# Altium integrated library TI Data Converters Analog to Digital Converter.IntLib: 2197 symbols (part 53 of 168)
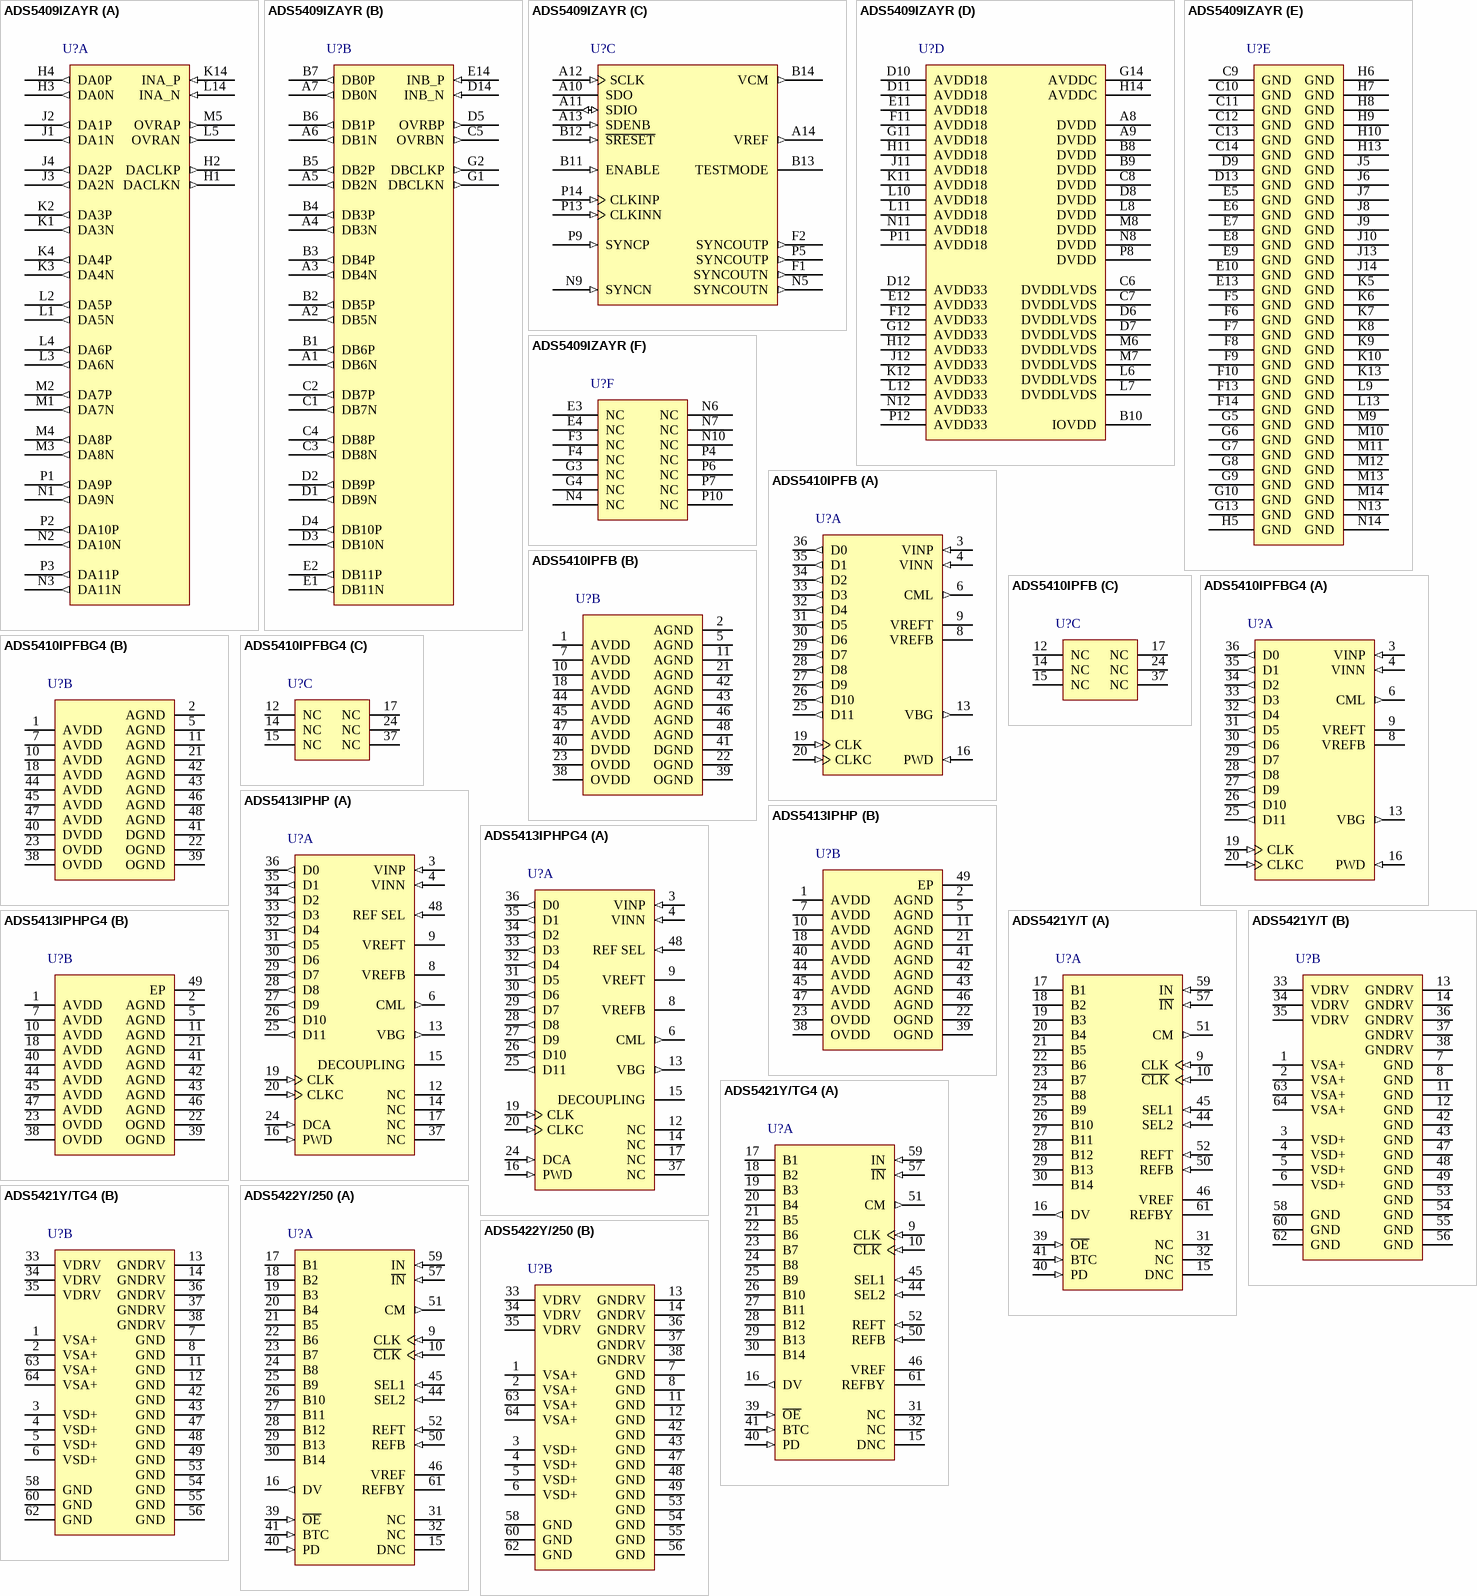
[diagram p178: symbols ADS5409IZAYR to ADS5422Y/250]

## ADS5413IPHP
designator U?
Low Power Analog to Digital Converter, -40 to 85 degC, 48-pin QFP (PHP48), Green (RoHS & no Sb/Br); Manufacturer: Texas Instruments; PartNumber: ADS5413IPHP; # Input Channels: 1; Analog Voltage AV/DD(Max)(V): 3.6; Analog Voltage AV/DD(Min)(V): 3; Architecture: Pipeline; Digital Supply(Max)(V): 3.3; Digital Supply(Min)(V): 1.6; ENOB(Bits): 11.3; INL(Max)(+/-LSB): 2; Interface: Parallel LVDS, Serial SPI Interface; Resolution(Bits): 12; Sample Rate (max)(SPS): 65M; SFDR(dB): 79; SINAD(dB): 67.8; SNR(dB): 68.5; SubFamily: High Speed ADC (>10MSPS); DatasheetVersion: SLWS153; PackageVersion: 4146927/B, 08/2003; PackageReference: PHP48-4410X4410TP; PackageDescription: 48-Pin PowerPAD(TM) Plastic Quad Flatpack, Body 7 x 7 mm, Pitch 0.5 mm; Eco-Plan: Green (RoHS & no Sb/Br); Mounting Technology: Surface Mount; Code_JEDEC: MS-026; ComponentLink1Description: Manufacturer URL; ComponentLink1URL: http://www.ti.com/; ComponentLink2Description: Datasheet; ComponentLink2URL: http://www.ti.com/general/docs/lit/getliterature.tsp?genericPartNumber=ADS5413&fileType=pdf; ComponentLink3Description: Package Specification; ComponentLink3URL: http://www.ti.com/litv/pdf/mpqf051a
footprint TI-PHP48-4410X4410TP_N (QFP, 48-Leads, Body 7x7mm, Pitch 0.5mm, Thermal Pad 4.6 x 4.6 mm, IPC Medium Density)
footprint TI-PHP48-4410X4410TP_L (QFP, 48-Leads, Body 7x7mm, Pitch 0.5mm, Thermal Pad 4.6 x 4.6 mm, IPC High Density)
footprint TI-PHP48-4410X4410TP_M (QFP, 48-Leads, Body 7x7mm, Pitch 0.5mm, Thermal Pad 4.6 x 4.6 mm, IPC Low Density)
part A pins: 3 VINP (in) "Analog input", 4 VINN (in) "Complementary analog input", 6 CML (out) "Common-mode output voltage", 8 VREFB "Reference bottom", 9 VREFT "Reference top", 12 NC "No connection", 13 VBG (out) "Bandgap voltage output", 14 NC "No connection", 15 DECOUPLING "Decoupling pin. Add 0.1 uF to GND", 16 PWD (in) "Power down. High = powered down, low = powered up, NC = powered up", 17 NC "No connection", 19 CLK (in) "Clock input", 20 CLKC (in) "Complementary clock input", 24 DCA (in) "Duty cycle adjust control. High = enable, low = disable, NC = enable", 25 D11 (out) "Digital outputs, D11 is most significant data bit", 26 D10 (out) "Digital outputs", 27 D9 (out) "Digital outputs", 28 D8 (out) "Digital outputs", 29 D7 (out) "Digital outputs", 30 D6 (out) "Digital outputs", 31 D5 (out) "Digital outputs", 32 D4 (out) "Digital outputs", 33 D3 (out) "Digital outputs", 34 D2 (out) "Digital outputs", 35 D1 (out) "Digital outputs", 36 D0 (out) "Digital outputs, D0 is least significant data bit.", 37 NC "No connection", 48 REF SEL (in) "Reference select. High = external reference, low = internal reference, NC = internal reference"
part B pins: 1 AVDD (power) "Analog power supply", 2 AGND (power) "Analog ground", 5 AGND (power) "Analog ground", 7 AVDD (power) "Analog power supply", 10 AVDD (power) "Analog power supply", 11 AGND (power) "Analog ground", 18 AVDD (power) "Analog power supply", 21 AGND (power) "Analog ground", 22 OGND (power) "Digital driver ground", 23 OVDD (power) "Digital driver power supply", 38 OVDD (power) "Digital driver power supply", 39 OGND (power) "Digital driver ground", 40 AVDD (power) "Analog power supply", 41 AGND (power) "Analog ground", 42 AGND (power) "Analog ground", 43 AGND (power) "Analog ground", 44 AVDD (power) "Analog power supply", 45 AVDD (power) "Analog power supply", 46 AGND (power) "Analog ground", 47 AVDD (power) "Analog power supply", 49 EP (power) "Connect to GND Plane"

## ADS5413IPHPG4
designator U?
Low Power Analog to Digital Converter, -40 to 85 degC, 48-pin QFP (PHP48), Green (RoHS & no Sb/Br); Manufacturer: Texas Instruments; PartNumber: ADS5413IPHPG4; # Input Channels: 1; Analog Voltage AV/DD(Max)(V): 3.6; Analog Voltage AV/DD(Min)(V): 3; Architecture: Pipeline; Digital Supply(Max)(V): 3.3; Digital Supply(Min)(V): 1.6; ENOB(Bits): 11.3; INL(Max)(+/-LSB): 2; Interface: Parallel LVDS, Serial SPI Interface; Resolution(Bits): 12; Sample Rate (max)(SPS): 65M; SFDR(dB): 79; SINAD(dB): 67.8; SNR(dB): 68.5; SubFamily: High Speed ADC (>10MSPS); DatasheetVersion: SLWS153; PackageVersion: 4146927/B, 08/2003; PackageReference: PHP48-4410X4410TP; PackageDescription: 48-Pin PowerPAD(TM) Plastic Quad Flatpack, Body 7 x 7 mm, Pitch 0.5 mm; Supplier 1: Digi-Key; Supplier Part Number 1: 296-10016-ND; Supplier 2: Farnell; Supplier Part Number 2: 1236503; Supplier 3: Mouser; Supplier Part Number 3: 595-THS1403QPHP; Eco-Plan: Green (RoHS & no Sb/Br); Mounting Technology: Surface Mount; Code_JEDEC: MS-026; ComponentLink1Description: Manufacturer URL; ComponentLink1URL: http://www.ti.com/; ComponentLink2Description: Datasheet; ComponentLink2URL: http://www.ti.com/general/docs/lit/getliterature.tsp?genericPartNumber=ADS5413&fileType=pdf; ComponentLink3Description: Package Specification; ComponentLink3URL: http://www.ti.com/litv/pdf/mpqf051a
footprint TI-PHP48-4410X4410TP_N (QFP, 48-Leads, Body 7x7mm, Pitch 0.5mm, Thermal Pad 4.6 x 4.6 mm, IPC Medium Density)
footprint TI-PHP48-4410X4410TP_L (QFP, 48-Leads, Body 7x7mm, Pitch 0.5mm, Thermal Pad 4.6 x 4.6 mm, IPC High Density)
footprint TI-PHP48-4410X4410TP_M (QFP, 48-Leads, Body 7x7mm, Pitch 0.5mm, Thermal Pad 4.6 x 4.6 mm, IPC Low Density)
part A pins: 3 VINP (in) "Analog input", 4 VINN (in) "Complementary analog input", 6 CML (out) "Common-mode output voltage", 8 VREFB "Reference bottom", 9 VREFT "Reference top", 12 NC "No connection", 13 VBG (out) "Bandgap voltage output", 14 NC "No connection", 15 DECOUPLING "Decoupling pin. Add 0.1 uF to GND", 16 PWD (in) "Power down. High = powered down, low = powered up, NC = powered up", 17 NC "No connection", 19 CLK (in) "Clock input", 20 CLKC (in) "Complementary clock input", 24 DCA (in) "Duty cycle adjust control. High = enable, low = disable, NC = enable", 25 D11 (out) "Digital outputs, D11 is most significant data bit", 26 D10 (out) "Digital outputs", 27 D9 (out) "Digital outputs", 28 D8 (out) "Digital outputs", 29 D7 (out) "Digital outputs", 30 D6 (out) "Digital outputs", 31 D5 (out) "Digital outputs", 32 D4 (out) "Digital outputs", 33 D3 (out) "Digital outputs", 34 D2 (out) "Digital outputs", 35 D1 (out) "Digital outputs", 36 D0 (out) "Digital outputs, D0 is least significant data bit.", 37 NC "No connection", 48 REF SEL (in) "Reference select. High = external reference, low = internal reference, NC = internal reference"
part B pins: 1 AVDD (power) "Analog power supply", 2 AGND (power) "Analog ground", 5 AGND (power) "Analog ground", 7 AVDD (power) "Analog power supply", 10 AVDD (power) "Analog power supply", 11 AGND (power) "Analog ground", 18 AVDD (power) "Analog power supply", 21 AGND (power) "Analog ground", 22 OGND (power) "Digital driver ground", 23 OVDD (power) "Digital driver power supply", 38 OVDD (power) "Digital driver power supply", 39 OGND (power) "Digital driver ground", 40 AVDD (power) "Analog power supply", 41 AGND (power) "Analog ground", 42 AGND (power) "Analog ground", 43 AGND (power) "Analog ground", 44 AVDD (power) "Analog power supply", 45 AVDD (power) "Analog power supply", 46 AGND (power) "Analog ground", 47 AVDD (power) "Analog power supply", 49 EP (power) "Connect to GND Plane"

## ADS5421Y/T
designator U?
14-Bit, 40 MSPS Sampling ADC, -40 to 85 degC, 64-pin QFP (PM64), Green (RoHS & no Sb/Br); Manufacturer: Texas Instruments; PartNumber: ADS5421Y/T; # Input Channels: 1; Analog Voltage AV/DD(Max)(V): 5.25; Analog Voltage AV/DD(Min)(V): 4.75; Architecture: Pipeline; Digital Supply(Max)(V): 5; Digital Supply(Min)(V): 3; ENOB(Bits): 12.2; Interface: Parallel LVDS, Serial SPI Interface; Resolution(Bits): 14; Sample Rate (max)(SPS): 40M; SFDR(dB): 88; SINAD(dB): 75; SNR(dB): 76; SubFamily: High Speed ADC (>10MSPS); DatasheetVersion: SBAS237E; PackageVersion: 4040152/C, 11/1996; PackageReference: PM64; PackageDescription: 64-Pin Plastic Quad Flatpack, Body 10 x 10 mm, Pitch 0.5 mm; Supplier 1: Digi-Key; Supplier Part Number 1: ADS1602IPFBR-ND; Supplier 2: Mouser; Supplier Part Number 2: 595-ADS1602IPFBR; Eco-Plan: Green (RoHS & no Sb/Br); Mounting Technology: Surface Mount; Code_JEDEC: MS-026; ComponentLink1Description: Manufacturer URL; ComponentLink1URL: http://www.ti.com/; ComponentLink2Description: Datasheet; ComponentLink2URL: http://www.ti.com/general/docs/lit/getliterature.tsp?genericPartNumber=ADS5421&fileType=pdf; ComponentLink3Description: Package Specification; ComponentLink3URL: http://www.ti.com/lit/ml/mtqf008a/mtqf008a.pdf
footprint TI-PM64_N (QFP, 64-Leads, Body 10x10mm, Pitch 0.5mm, IPC Medium Density)
footprint TI-PM64_L (QFP, 64-Leads, Body 10x10mm, Pitch 0.5mm, IPC High Density)
footprint TI-PM64_M (QFP, 64-Leads, Body 10x10mm, Pitch 0.5mm, IPC Low Density)
part A pins: 9 CLK (in) "Clock Input", 10 ~{CLK} (in) "Complementary Clock Input", 15 DNC "Do Not Connect", 16 DV (out) "Data Valid Pulse: HI = Data Valid", 17 B1 (hiz) "Data Bit 1 (D13) (MSB)", 18 B2 (hiz) "Data Bit 2 (D12)", 19 B3 (hiz) "Data Bit 3 (D11)", 20 B4 (hiz) "Data Bit 4 (D10)", 21 B5 (hiz) "Data Bit 5 (D9)", 22 B6 (hiz) "Data Bit 6 (D8)", 23 B7 (hiz) "Data Bit 7 (D7)", 24 B8 (hiz) "Data Bit 8 (D6)", 25 B9 (hiz) "Data Bit 9 (D5)", 26 B10 (hiz) "Data Bit 10 (D4)", 27 B11 (hiz) "Data Bit 11 (D3)", 28 B12 (hiz) "Data Bit 12 (D2)", 29 B13 (hiz) "Data Bit 13 (D1)", 30 B14 (hiz) "Data Bit 14 (D0) (LSB)", 31 NC "No Internal Connection", 32 NC "No Internal Connection", 39 ~{OE} (in) "Output Enable: HI = High Impedance", 40 PD (in) "Power Down: HI = Power Down; LO = Normal", 41 BTC (in) "HI = Binary Two‘s Complement", 44 SEL2 (in) "Reference Select 2: See Table on Page 5", 45 SEL1 (in) "Reference Select 1: See Table on Page 5", 46 VREF "Internal Reference Voltage", 50 REFB (in) "Bottom Reference Voltage Bypass", 51 CM (out) "Common-Mode Voltage (Midscale)", 52 REFT (in) "Top Reference Voltage Bypass", 57 ~{IN} (in) "Complementary Analog Input", 59 IN (in) "Analog Input", 61 REFBY "Reference Bypass"
part B pins: 1 VSA+ (power) "Analog Supply Voltage", 2 VSA+ (power) "Analog Supply Voltage", 3 VSD+ (power) "Digital Supply Voltage", 4 VSD+ (power) "Digital Supply Voltage", 5 VSD+ (power) "Digital Supply Voltage", 6 VSD+ (power) "Digital Supply Voltage", 7 GND (power) "Ground", 8 GND (power) "Ground", 11 GND (power) "Ground", 12 GND (power) "Ground", 13 GNDRV (power) "Ground", 14 GNDRV (power) "Ground", 33 VDRV (power) "Output Driver Supply Voltage", 34 VDRV (power) "Output Driver Supply Voltage", 35 VDRV (power) "Output Driver Supply Voltage", 36 GNDRV (power) "Ground", 37 GNDRV (power) "Ground", 38 GNDRV (power) "Ground", 42 GND (power) "Ground", 43 GND (power) "Ground", 47 GND (power) "Ground", 48 GND (power) "Ground", 49 GND (power) "Ground", 53 GND (power) "Ground", 54 GND (power) "Ground", 55 GND (power) "Ground", 56 GND (power) "Ground", 58 GND (power) "Ground", 60 GND (power) "Ground", 62 GND (power) "Ground", 63 VSA+ (power) "Analog Supply Voltage", 64 VSA+ (power) "Analog Supply Voltage"

## ADS5421Y/TG4
designator U?
14-Bit, 40 MSPS Sampling ADC, -40 to 85 degC, 64-pin QFP (PM64), Green (RoHS & no Sb/Br); Manufacturer: Texas Instruments; PartNumber: ADS5421Y/TG4; # Input Channels: 1; Analog Voltage AV/DD(Max)(V): 5.25; Analog Voltage AV/DD(Min)(V): 4.75; Architecture: Pipeline; Digital Supply(Max)(V): 5; Digital Supply(Min)(V): 3; ENOB(Bits): 12.2; Interface: Parallel LVDS, Serial SPI Interface; Resolution(Bits): 14; Sample Rate (max)(SPS): 40M; SFDR(dB): 88; SINAD(dB): 75; SNR(dB): 76; SubFamily: High Speed ADC (>10MSPS); DatasheetVersion: SBAS237E; PackageVersion: 4040152/C, 11/1996; PackageReference: PM64; PackageDescription: 64-Pin Plastic Quad Flatpack, Body 10 x 10 mm, Pitch 0.5 mm; Supplier 1: Digi-Key; Supplier Part Number 1: ADS1602IPFBRG4-ND; Supplier 2: Mouser; Supplier Part Number 2: 595-ADS1602IPFBRG4; Eco-Plan: Green (RoHS & no Sb/Br); Mounting Technology: Surface Mount; Code_JEDEC: MS-026; ComponentLink1Description: Manufacturer URL; ComponentLink1URL: http://www.ti.com/; ComponentLink2Description: Datasheet; ComponentLink2URL: http://www.ti.com/general/docs/lit/getliterature.tsp?genericPartNumber=ADS5421&fileType=pdf; ComponentLink3Description: Package Specification; ComponentLink3URL: http://www.ti.com/lit/ml/mtqf008a/mtqf008a.pdf
footprint TI-PM64_N (QFP, 64-Leads, Body 10x10mm, Pitch 0.5mm, IPC Medium Density)
footprint TI-PM64_L (QFP, 64-Leads, Body 10x10mm, Pitch 0.5mm, IPC High Density)
footprint TI-PM64_M (QFP, 64-Leads, Body 10x10mm, Pitch 0.5mm, IPC Low Density)
part A pins: 9 CLK (in) "Clock Input", 10 ~{CLK} (in) "Complementary Clock Input", 15 DNC "Do Not Connect", 16 DV (out) "Data Valid Pulse: HI = Data Valid", 17 B1 (hiz) "Data Bit 1 (D13) (MSB)", 18 B2 (hiz) "Data Bit 2 (D12)", 19 B3 (hiz) "Data Bit 3 (D11)", 20 B4 (hiz) "Data Bit 4 (D10)", 21 B5 (hiz) "Data Bit 5 (D9)", 22 B6 (hiz) "Data Bit 6 (D8)", 23 B7 (hiz) "Data Bit 7 (D7)", 24 B8 (hiz) "Data Bit 8 (D6)", 25 B9 (hiz) "Data Bit 9 (D5)", 26 B10 (hiz) "Data Bit 10 (D4)", 27 B11 (hiz) "Data Bit 11 (D3)", 28 B12 (hiz) "Data Bit 12 (D2)", 29 B13 (hiz) "Data Bit 13 (D1)", 30 B14 (hiz) "Data Bit 14 (D0) (LSB)", 31 NC "No Internal Connection", 32 NC "No Internal Connection", 39 ~{OE} (in) "Output Enable: HI = High Impedance", 40 PD (in) "Power Down: HI = Power Down; LO = Normal", 41 BTC (in) "HI = Binary Two‘s Complement", 44 SEL2 (in) "Reference Select 2: See Table on Page 5", 45 SEL1 (in) "Reference Select 1: See Table on Page 5", 46 VREF "Internal Reference Voltage", 50 REFB (in) "Bottom Reference Voltage Bypass", 51 CM (out) "Common-Mode Voltage (Midscale)", 52 REFT (in) "Top Reference Voltage Bypass", 57 ~{IN} (in) "Complementary Analog Input", 59 IN (in) "Analog Input", 61 REFBY "Reference Bypass"
part B pins: 1 VSA+ (power) "Analog Supply Voltage", 2 VSA+ (power) "Analog Supply Voltage", 3 VSD+ (power) "Digital Supply Voltage", 4 VSD+ (power) "Digital Supply Voltage", 5 VSD+ (power) "Digital Supply Voltage", 6 VSD+ (power) "Digital Supply Voltage", 7 GND (power) "Ground", 8 GND (power) "Ground", 11 GND (power) "Ground", 12 GND (power) "Ground", 13 GNDRV (power) "Ground", 14 GNDRV (power) "Ground", 33 VDRV (power) "Output Driver Supply Voltage", 34 VDRV (power) "Output Driver Supply Voltage", 35 VDRV (power) "Output Driver Supply Voltage", 36 GNDRV (power) "Ground", 37 GNDRV (power) "Ground", 38 GNDRV (power) "Ground", 42 GND (power) "Ground", 43 GND (power) "Ground", 47 GND (power) "Ground", 48 GND (power) "Ground", 49 GND (power) "Ground", 53 GND (power) "Ground", 54 GND (power) "Ground", 55 GND (power) "Ground", 56 GND (power) "Ground", 58 GND (power) "Ground", 60 GND (power) "Ground", 62 GND (power) "Ground", 63 VSA+ (power) "Analog Supply Voltage", 64 VSA+ (power) "Analog Supply Voltage"

## ADS5422Y/250
designator U?
14-Bit, 62 MSPS Sampling ADC, -40 to 85 degC, 64-pin QFP (PM64), Green (RoHS & no Sb/Br); Manufacturer: Texas Instruments; PartNumber: ADS5422Y/250; # Input Channels: 1; Analog Voltage AV/DD(Max)(V): 5.25; Analog Voltage AV/DD(Min)(V): 4.75; Architecture: Pipeline; Digital Supply(Max)(V): 5; Digital Supply(Min)(V): 3; ENOB(Bits): 11.7; Interface: Parallel LVDS, Serial SPI Interface; Resolution(Bits): 14; Sample Rate (max)(SPS): 62M; SFDR(dB): 85; SINAD(dB): 72; SNR(dB): 73; SubFamily: High Speed ADC (>10MSPS); DatasheetVersion: SBAS250D; PackageVersion: 4040152/C, 11/1996; PackageReference: PM64; PackageDescription: 64-Pin Plastic Quad Flatpack, Body 10 x 10 mm, Pitch 0.5 mm; Supplier 1: Digi-Key; Supplier Part Number 1: 296-17890-2-ND; Supplier 2: Digi-Key; Supplier Part Number 2: 296-17890-1-ND; Supplier 3: Digi-Key; Supplier Part Number 3: 296-17890-6-ND; Supplier 4: Farnell; Supplier Part Number 4: 9968903; Supplier 5: Newark; Supplier Part Number 5: 28K2732; Supplier 6: Mouser; Supplier Part Number 6: 595-ADS1602IPFBT; Eco-Plan: Green (RoHS & no Sb/Br); Mounting Technology: Surface Mount; Code_JEDEC: MS-026; ComponentLink1Description: Manufacturer URL; ComponentLink1URL: http://www.ti.com/; ComponentLink2Description: Datasheet; ComponentLink2URL: http://www.ti.com/general/docs/lit/getliterature.tsp?genericPartNumber=ADS5422&fileType=pdf; ComponentLink3Description: Package Specification; ComponentLink3URL: http://www.ti.com/lit/ml/mtqf008a/mtqf008a.pdf
footprint TI-PM64_N (QFP, 64-Leads, Body 10x10mm, Pitch 0.5mm, IPC Medium Density)
footprint TI-PM64_L (QFP, 64-Leads, Body 10x10mm, Pitch 0.5mm, IPC High Density)
footprint TI-PM64_M (QFP, 64-Leads, Body 10x10mm, Pitch 0.5mm, IPC Low Density)
part A pins: 9 CLK (in) "Clock Input", 10 ~{CLK} (in) "Complementary Clock Input", 15 DNC "Do Not Connect", 16 DV (out) "Data Valid Pulse: HI = Data Valid", 17 B1 (hiz) "Data Bit 1 (D13) (MSB)", 18 B2 (hiz) "Data Bit 2 (D12)", 19 B3 (hiz) "Data Bit 3 (D11)", 20 B4 (hiz) "Data Bit 4 (D10)", 21 B5 (hiz) "Data Bit 5 (D9)", 22 B6 (hiz) "Data Bit 6 (D8)", 23 B7 (hiz) "Data Bit 7 (D7)", 24 B8 (hiz) "Data Bit 8 (D6)", 25 B9 (hiz) "Data Bit 9 (D5)", 26 B10 (hiz) "Data Bit 10 (D4)", 27 B11 (hiz) "Data Bit 11 (D3)", 28 B12 (hiz) "Data Bit 12 (D2)", 29 B13 (hiz) "Data Bit 13 (D1)", 30 B14 (hiz) "Data Bit 14 (D0) (LSB)", 31 NC "No Internal Connection", 32 NC "No Internal Connection", 39 ~{OE} (in) "Output Enable: HI = High Impedance", 40 PD (in) "Power Down: HI = Power Down; LO = Normal", 41 BTC (in) "HI = Binary Two‘s Complement", 44 SEL2 (in) "Reference Select 2: See Table on Page 5", 45 SEL1 (in) "Reference Select 1: See Table on Page 5", 46 VREF "Internal Reference Voltage", 50 REFB (in) "Bottom Reference Voltage Bypass", 51 CM (out) "Common-Mode Voltage (Midscale)", 52 REFT (in) "Top Reference Voltage Bypass", 57 ~{IN} (in) "Complementary Analog Input", 59 IN (in) "Analog Input", 61 REFBY "Reference Bypass"
part B pins: 1 VSA+ (power) "Analog Supply Voltage", 2 VSA+ (power) "Analog Supply Voltage", 3 VSD+ (power) "Digital Supply Voltage", 4 VSD+ (power) "Digital Supply Voltage", 5 VSD+ (power) "Digital Supply Voltage", 6 VSD+ (power) "Digital Supply Voltage", 7 GND (power) "Ground", 8 GND (power) "Ground", 11 GND (power) "Ground", 12 GND (power) "Ground", 13 GNDRV (power) "Ground", 14 GNDRV (power) "Ground", 33 VDRV (power) "Output Driver Supply Voltage", 34 VDRV (power) "Output Driver Supply Voltage", 35 VDRV (power) "Output Driver Supply Voltage", 36 GNDRV (power) "Ground", 37 GNDRV (power) "Ground", 38 GNDRV (power) "Ground", 42 GND (power) "Ground", 43 GND (power) "Ground", 47 GND (power) "Ground", 48 GND (power) "Ground", 49 GND (power) "Ground", 53 GND (power) "Ground", 54 GND (power) "Ground", 55 GND (power) "Ground", 56 GND (power) "Ground", 58 GND (power) "Ground", 60 GND (power) "Ground", 62 GND (power) "Ground", 63 VSA+ (power) "Analog Supply Voltage", 64 VSA+ (power) "Analog Supply Voltage"

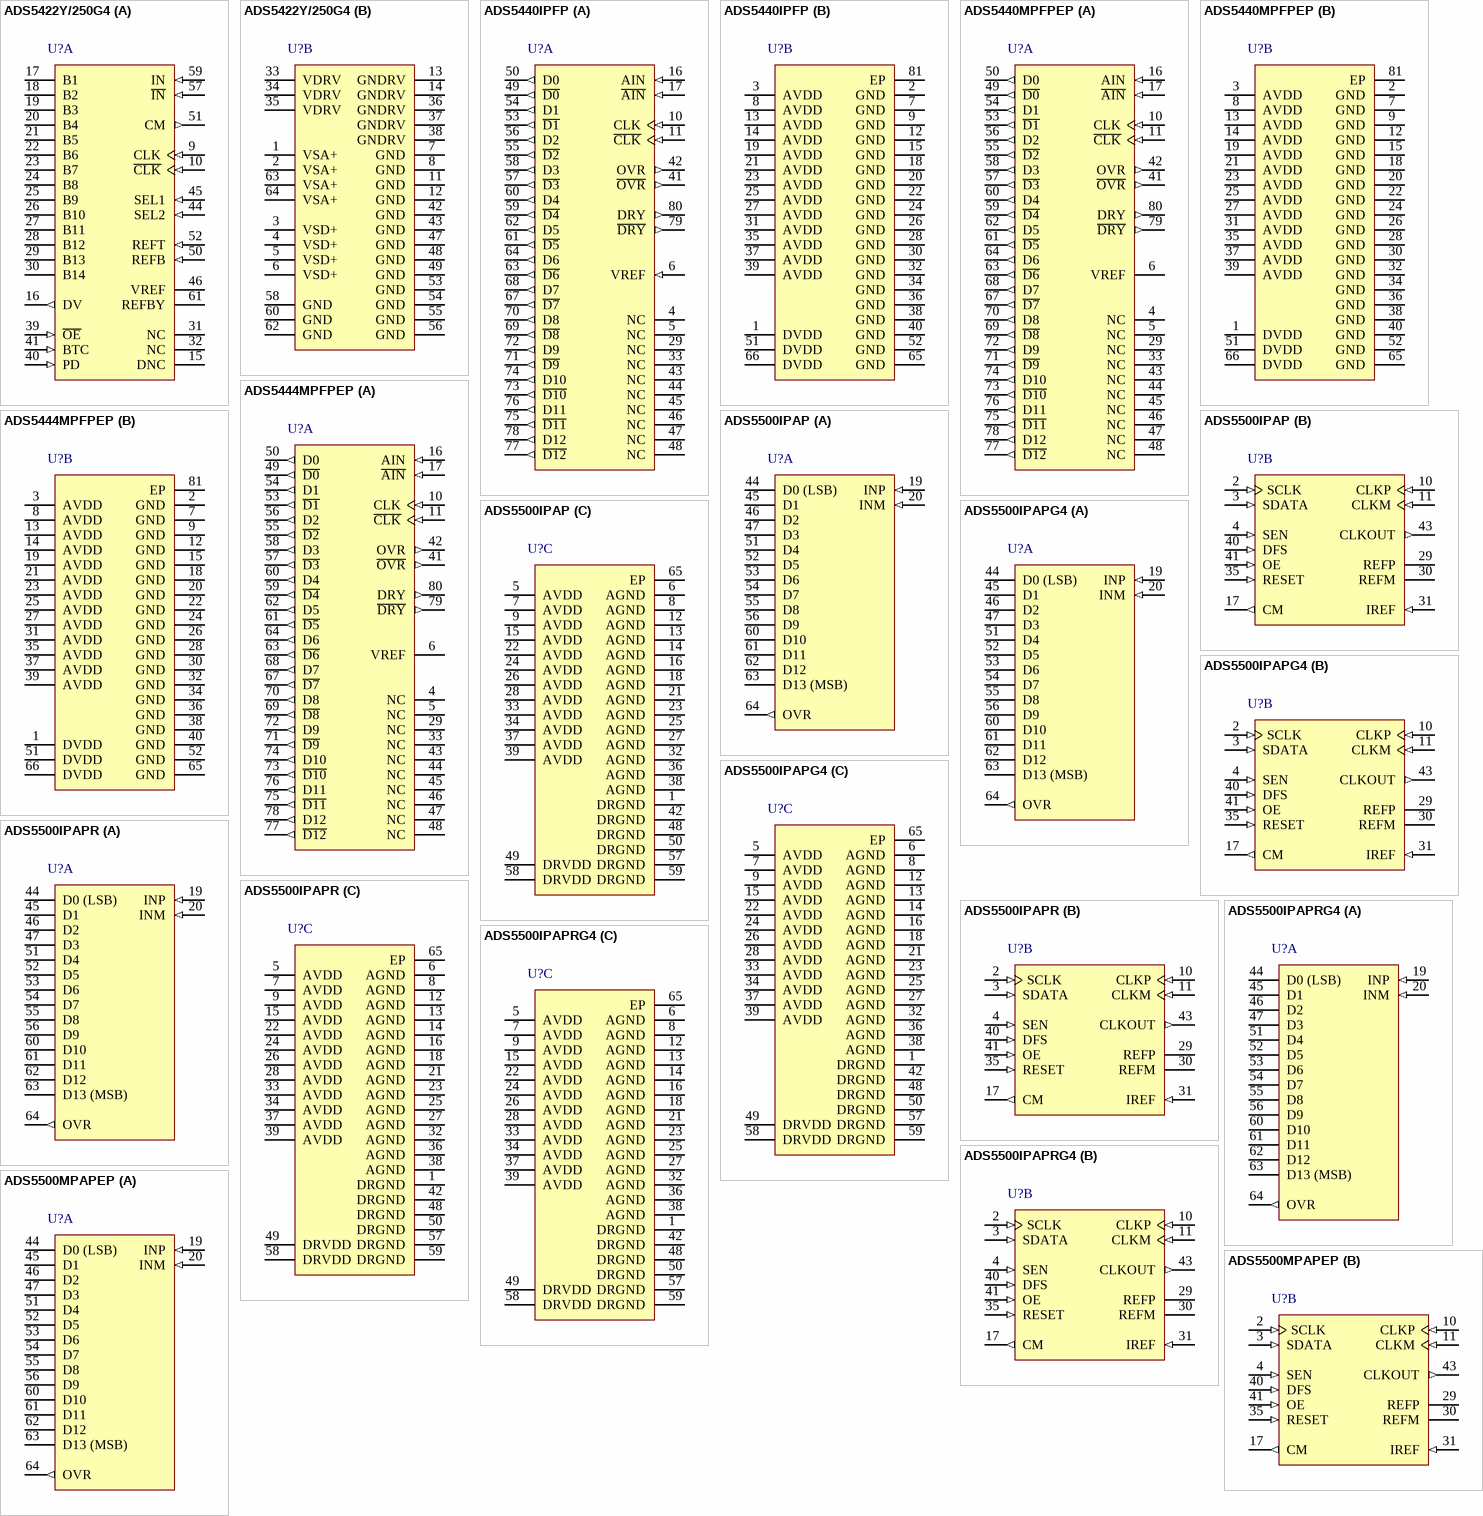
[diagram p51: symbols ADS5422Y/250G4 to ADS5500MPAPEP]

## ADS5422Y/250G4
designator U?
14-Bit, 62 MSPS Sampling ADC, -40 to 85 degC, 64-pin QFP (PM64), Green (RoHS & no Sb/Br); Manufacturer: Texas Instruments; PartNumber: ADS5422Y/250G4; # Input Channels: 1; Analog Voltage AV/DD(Max)(V): 5.25; Analog Voltage AV/DD(Min)(V): 4.75; Architecture: Pipeline; Digital Supply(Max)(V): 5; Digital Supply(Min)(V): 3; ENOB(Bits): 11.7; Interface: Parallel LVDS, Serial SPI Interface; Resolution(Bits): 14; Sample Rate (max)(SPS): 62M; SFDR(dB): 85; SINAD(dB): 72; SNR(dB): 73; SubFamily: High Speed ADC (>10MSPS); DatasheetVersion: SBAS250D; PackageVersion: 4040152/C, 11/1996; PackageReference: PM64; PackageDescription: 64-Pin Plastic Quad Flatpack, Body 10 x 10 mm, Pitch 0.5 mm; Supplier 1: Digi-Key; Supplier Part Number 1: ADS1602IPFBTG4-ND; Supplier 2: Mouser; Supplier Part Number 2: 595-ADS1602IPFBTG4; Eco-Plan: Green (RoHS & no Sb/Br); Mounting Technology: Surface Mount; Code_JEDEC: MS-026; ComponentLink1Description: Manufacturer URL; ComponentLink1URL: http://www.ti.com/; ComponentLink2Description: Datasheet; ComponentLink2URL: http://www.ti.com/general/docs/lit/getliterature.tsp?genericPartNumber=ADS5422&fileType=pdf; ComponentLink3Description: Package Specification; ComponentLink3URL: http://www.ti.com/lit/ml/mtqf008a/mtqf008a.pdf
footprint TI-PM64_N (QFP, 64-Leads, Body 10x10mm, Pitch 0.5mm, IPC Medium Density)
footprint TI-PM64_L (QFP, 64-Leads, Body 10x10mm, Pitch 0.5mm, IPC High Density)
footprint TI-PM64_M (QFP, 64-Leads, Body 10x10mm, Pitch 0.5mm, IPC Low Density)
part A pins: 9 CLK (in) "Clock Input", 10 ~{CLK} (in) "Complementary Clock Input", 15 DNC "Do Not Connect", 16 DV (out) "Data Valid Pulse: HI = Data Valid", 17 B1 (hiz) "Data Bit 1 (D13) (MSB)", 18 B2 (hiz) "Data Bit 2 (D12)", 19 B3 (hiz) "Data Bit 3 (D11)", 20 B4 (hiz) "Data Bit 4 (D10)", 21 B5 (hiz) "Data Bit 5 (D9)", 22 B6 (hiz) "Data Bit 6 (D8)", 23 B7 (hiz) "Data Bit 7 (D7)", 24 B8 (hiz) "Data Bit 8 (D6)", 25 B9 (hiz) "Data Bit 9 (D5)", 26 B10 (hiz) "Data Bit 10 (D4)", 27 B11 (hiz) "Data Bit 11 (D3)", 28 B12 (hiz) "Data Bit 12 (D2)", 29 B13 (hiz) "Data Bit 13 (D1)", 30 B14 (hiz) "Data Bit 14 (D0) (LSB)", 31 NC "No Internal Connection", 32 NC "No Internal Connection", 39 ~{OE} (in) "Output Enable: HI = High Impedance", 40 PD (in) "Power Down: HI = Power Down; LO = Normal", 41 BTC (in) "HI = Binary Two‘s Complement", 44 SEL2 (in) "Reference Select 2: See Table on Page 5", 45 SEL1 (in) "Reference Select 1: See Table on Page 5", 46 VREF "Internal Reference Voltage", 50 REFB (in) "Bottom Reference Voltage Bypass", 51 CM (out) "Common-Mode Voltage (Midscale)", 52 REFT (in) "Top Reference Voltage Bypass", 57 ~{IN} (in) "Complementary Analog Input", 59 IN (in) "Analog Input", 61 REFBY "Reference Bypass"
part B pins: 1 VSA+ (power) "Analog Supply Voltage", 2 VSA+ (power) "Analog Supply Voltage", 3 VSD+ (power) "Digital Supply Voltage", 4 VSD+ (power) "Digital Supply Voltage", 5 VSD+ (power) "Digital Supply Voltage", 6 VSD+ (power) "Digital Supply Voltage", 7 GND (power) "Ground", 8 GND (power) "Ground", 11 GND (power) "Ground", 12 GND (power) "Ground", 13 GNDRV (power) "Ground", 14 GNDRV (power) "Ground", 33 VDRV (power) "Output Driver Supply Voltage", 34 VDRV (power) "Output Driver Supply Voltage", 35 VDRV (power) "Output Driver Supply Voltage", 36 GNDRV (power) "Ground", 37 GNDRV (power) "Ground", 38 GNDRV (power) "Ground", 42 GND (power) "Ground", 43 GND (power) "Ground", 47 GND (power) "Ground", 48 GND (power) "Ground", 49 GND (power) "Ground", 53 GND (power) "Ground", 54 GND (power) "Ground", 55 GND (power) "Ground", 56 GND (power) "Ground", 58 GND (power) "Ground", 60 GND (power) "Ground", 62 GND (power) "Ground", 63 VSA+ (power) "Analog Supply Voltage", 64 VSA+ (power) "Analog Supply Voltage"

## ADS5440IPFP
designator U?
13-Bit, 210 MSPS Pipeline ADC, -40 to 85 degC, 80-pin QFP (PFP80), Green (RoHS & no Sb/Br); Manufacturer: Texas Instruments; PartNumber: ADS5440IPFP; # Input Channels: 1; Analog Voltage AV/DD(Max)(V): 5.25; Analog Voltage AV/DD(Min)(V): 4.75; Digital Supply(Max)(V): 3.6; Digital Supply(Min)(V): 3; ENOB(Bits): 11.4; INL(Max)(+/-LSB): 2.2; Interface: Parallel LVDS; Resolution(Bits): 13; Sample Rate (max)(SPS): 210M; SFDR(dB): 76; SINAD(dB): 68; SNR(dB): 69; SubFamily: High Speed ADC (>10MSPS); DatasheetVersion: SLAS467A; PackageVersion: 4146925/C, 07/2011; PackageReference: PFP80-6825X6825TP; PackageDescription: 80-Pin PowerPAD(TM) Plastic Quad Flatpack, Body 12 x 12 mm, Pitch 0.5 mm; Supplier 1: Digi-Key; Supplier Part Number 1: 296-25640-2-ND; Supplier 2: Digi-Key; Supplier Part Number 2: 296-25640-1-ND; Supplier 3: Digi-Key; Supplier Part Number 3: 296-25640-6-ND; Supplier 4: Mouser; Supplier Part Number 4: 595-ADS5204IPFBRG4Q1; Architecture: Pipeline; Eco-Plan: Green (RoHS & no Sb/Br); Mounting Technology: Surface Mount; Code_JEDEC: MS-026; ComponentLink1Description: Manufacturer URL; ComponentLink1URL: http://www.ti.com/; ComponentLink2Description: Datasheet; ComponentLink2URL: http://www.ti.com/general/docs/lit/getliterature.tsp?genericPartNumber=ADS5440&fileType=pdf; ComponentLink3Description: Package Specification; ComponentLink3URL: http://www.ti.com/litv/pdf/mpqf049b
footprint TI-PFP80-6825X6825TP_N (QFP, 80-Leads, Body 12x12mm, Pitch 0.5mm, Thermal Pad 7.5x7.5mm, IPC Medium Density)
footprint TI-PFP80-6825X6825TP_L (QFP, 80-Leads, Body 12x12mm, Pitch 0.5mm, Thermal Pad 7.5x7.5mm, IPC High Density)
footprint TI-PFP80-6825X6825TP_M (QFP, 80-Leads, Body 12x12mm, Pitch 0.5mm, Thermal Pad 7.5x7.5mm, IPC Low Density)
part A pins: 4 NC "No connect", 5 NC "No connect", 6 VREF (in) "Reference voltage", 10 CLK (in) "Differential input clock (positive). Conversion initiated on rising edge", 11 ~{CLK} (in) "Differential input clock (negative)", 16 AIN (in) "Differential input signal (positive)", 17 ~{AIN} (in) "Differential input signal (negative)", 29 NC "No connect", 33 NC "No connect", 41 ~{OVR} (out) "Over range indicator LVDS output. A logic high signals an analog input in excess of the full-scale range", 42 OVR (out) "Over range indicator LVDS output. A logic high signals an analog input in excess of the full-scale range", 43 NC "No connect", 44 NC "No connect", 45 NC "No connect", 46 NC "No connect", 47 NC "No connect", 48 NC "No connect", 49 ~{D0} (out) "LVDS digital output pair, least-significant bit (LSB)", 50 D0 (out) "LVDS digital output pair, least-significant bit (LSB)", 53 ~{D1} (out) "LVDS digital output pairs", 54 D1 (out) "LVDS digital output pairs", 55 ~{D2} (out) "LVDS digital output pairs", 56 D2 (out) "LVDS digital output pairs", 57 ~{D3} (out) "LVDS digital output pairs", 58 D3 (out) "LVDS digital output pairs", 59 ~{D4} (out) "LVDS digital output pairs", 60 D4 (out) "LVDS digital output pairs", 61 ~{D5} (out) "LVDS digital output pairs", 62 D5 (out) "LVDS digital output pairs", 63 ~{D6} (out) "LVDS digital output pairs", 64 D6 (out) "LVDS digital output pairs", 67 ~{D7} (out) "LVDS digital output pairs", 68 D7 (out) "LVDS digital output pairs", 69 ~{D8} (out) "LVDS digital output pairs", 70 D8 (out) "LVDS digital output pairs", 71 ~{D9} (out) "LVDS digital output pairs", 72 D9 (out) "LVDS digital output pairs", 73 ~{D10} (out) "LVDS digital output pairs", 74 D10 (out) "LVDS digital output pairs", 75 ~{D11} (out) "LVDS digital output pairs", 76 D11 (out) "LVDS digital output pairs", 77 ~{D12} (out) "LVDS digital output pair, most-significant bit (MSB)", 78 D12 (out) "LVDS digital output pair, most-significant bit (MSB)", 79 ~{DRY} (out) "Data ready LVDS output pair", 80 DRY (out) "Data ready LVDS output pair"
part B pins: 1 DVDD (power) "Output driver power supply", 2 GND (power) "Ground", 3 AVDD (power) "Analog power supply", 7 GND (power) "Ground", 8 AVDD (power) "Analog power supply", 9 GND (power) "Ground", 12 GND (power) "Ground", 13 AVDD (power) "Analog power supply", 14 AVDD (power) "Analog power supply", 15 GND (power) "Ground", 18 GND (power) "Ground", 19 AVDD (power) "Analog power supply", 20 GND (power) "Ground", 21 AVDD (power) "Analog power supply", 22 GND (power) "Ground", 23 AVDD (power) "Analog power supply", 24 GND (power) "Ground", 25 AVDD (power) "Analog power supply", 26 GND (power) "Ground", 27 AVDD (power) "Analog power supply", 28 GND (power) "Ground", 30 GND (power) "Ground", 31 AVDD (power) "Analog power supply", 32 GND (power) "Ground", 34 GND (power) "Ground", 35 AVDD (power) "Analog power supply", 36 GND (power) "Ground", 37 AVDD (power) "Analog power supply", 38 GND (power) "Ground", 39 AVDD (power) "Analog power supply", 40 GND (power) "Ground", 51 DVDD (power) "Output driver power supply", 52 GND (power) "Ground", 65 GND (power) "Ground", 66 DVDD (power) "Output driver power supply", 81 EP (power)

## ADS5440MPFPEP
designator U?
Enhanced Product 13-Bit 210 MSPS ADC, -55 to 125 degC, 80-pin QFP (PFP80), Green (RoHS & no Sb/Br); Manufacturer: Texas Instruments; PartNumber: ADS5440MPFPEP; # Input Channels: 1; Analog Voltage AV/DD(Max)(V): 5.25; Analog Voltage AV/DD(Min)(V): 4.75; Architecture: Pipeline; Digital Supply(Max)(V): 3.6; Digital Supply(Min)(V): 3; ENOB(Bits): 11.4; INL(Max)(+/-LSB): 2.2; Interface: Parallel LVDS; Resolution(Bits): 13; Sample Rate (max)(SPS): 210M; SFDR(dB): 76; SINAD(dB): 68; SNR(dB): 69; SubFamily: High Speed ADC (>10MSPS); DatasheetVersion: SGLS359; PackageVersion: 4146925/C, 07/2011; PackageReference: PFP80-6825X6825TP; PackageDescription: 80-Pin PowerPAD(TM) Plastic Quad Flatpack, Body 12 x 12 mm, Pitch 0.5 mm; Supplier 1: Digi-Key; Supplier Part Number 1: ADS5204IPFBRQ1-ND; Supplier 2: Mouser; Supplier Part Number 2: 595-ADS5204IPFBRQ1; Eco-Plan: Green (RoHS & no Sb/Br); Mounting Technology: Surface Mount; Code_JEDEC: MS-026; ComponentLink1Description: Manufacturer URL; ComponentLink1URL: http://www.ti.com/; ComponentLink2Description: Datasheet; ComponentLink2URL: http://www.ti.com/general/docs/lit/getliterature.tsp?genericPartNumber=ADS5440-EP&fileType=pdf; ComponentLink3Description: Package Specification; ComponentLink3URL: http://www.ti.com/litv/pdf/mpqf049b
footprint TI-PFP80-6825X6825TP_N (QFP, 80-Leads, Body 12x12mm, Pitch 0.5mm, Thermal Pad 7.5x7.5mm, IPC Medium Density)
footprint TI-PFP80-6825X6825TP_L (QFP, 80-Leads, Body 12x12mm, Pitch 0.5mm, Thermal Pad 7.5x7.5mm, IPC High Density)
footprint TI-PFP80-6825X6825TP_M (QFP, 80-Leads, Body 12x12mm, Pitch 0.5mm, Thermal Pad 7.5x7.5mm, IPC Low Density)
part A pins: 4 NC "No connect", 5 NC "No connect", 6 VREF "Reference voltage", 10 CLK (in) "Differential input clock (positive). Conversion initiated on rising edge", 11 ~{CLK} (in) "Differential input clock (negative)", 16 AIN (in) "Differential input signal (positive)", 17 ~{AIN} (in) "Differential input signal (negative)", 29 NC "No connect", 33 NC "No connect", 41 ~{OVR} (out) "Over range indicator LVDS output. A logic high signals an analog input in excess of the full-scale range", 42 OVR (out) "Over range indicator LVDS output. A logic high signals an analog input in excess of the full-scale range", 43 NC "No connect", 44 NC "No connect", 45 NC "No connect", 46 NC "No connect", 47 NC "No connect", 48 NC "No connect", 49 ~{D0} (out) "LVDS digital output pair, least-significant bit (LSB)", 50 D0 (out) "LVDS digital output pair, least-significant bit (LSB)", 53 ~{D1} (out) "LVDS digital output pairs", 54 D1 (out) "LVDS digital output pairs", 55 ~{D2} (out) "LVDS digital output pairs", 56 D2 (out) "LVDS digital output pairs", 57 ~{D3} (out) "LVDS digital output pairs", 58 D3 (out) "LVDS digital output pairs", 59 ~{D4} (out) "LVDS digital output pairs", 60 D4 (out) "LVDS digital output pairs", 61 ~{D5} (out) "LVDS digital output pairs", 62 D5 (out) "LVDS digital output pairs", 63 ~{D6} (out) "LVDS digital output pairs", 64 D6 (out) "LVDS digital output pairs", 67 ~{D7} (out) "LVDS digital output pairs", 68 D7 (out) "LVDS digital output pairs", 69 ~{D8} (out) "LVDS digital output pairs", 70 D8 (out) "LVDS digital output pairs", 71 ~{D9} (out) "LVDS digital output pairs", 72 D9 (out) "LVDS digital output pairs", 73 ~{D10} (out) "LVDS digital output pairs", 74 D10 (out) "LVDS digital output pairs", 75 ~{D11} (out) "LVDS digital output pairs", 76 D11 (out) "LVDS digital output pairs", 77 ~{D12} (out) "LVDS digital output pair, most-significant bit (MSB)", 78 D12 (out) "LVDS digital output pair, most-significant bit (MSB)", 79 ~{DRY} (out) "Data ready LVDS output pair", 80 DRY (out) "Data ready LVDS output pair"
part B pins: 1 DVDD (power) "Output driver power supply", 2 GND (power) "Ground", 3 AVDD (power) "Analog power supply", 7 GND (power) "Ground", 8 AVDD (power) "Analog power supply", 9 GND (power) "Ground", 12 GND (power) "Ground", 13 AVDD (power) "Analog power supply", 14 AVDD (power) "Analog power supply", 15 GND (power) "Ground", 18 GND (power) "Ground", 19 AVDD (power) "Analog power supply", 20 GND (power) "Ground", 21 AVDD (power) "Analog power supply", 22 GND (power) "Ground", 23 AVDD (power) "Analog power supply", 24 GND (power) "Ground", 25 AVDD (power) "Analog power supply", 26 GND (power) "Ground", 27 AVDD (power) "Analog power supply", 28 GND (power) "Ground", 30 GND (power) "Ground", 31 AVDD (power) "Analog power supply", 32 GND (power) "Ground", 34 GND (power) "Ground", 35 AVDD (power) "Analog power supply", 36 GND (power) "Ground", 37 AVDD (power) "Analog power supply", 38 GND (power) "Ground", 39 AVDD (power) "Analog power supply", 40 GND (power) "Ground", 51 DVDD (power) "Output driver power supply", 52 GND (power) "Ground", 65 GND (power) "Ground", 66 DVDD (power) "Output driver power supply", 81 EP (power)

## ADS5444MPFPEP
designator U?
Enhanced Product 13-Bit 250 MSPS ADC, -55 to 125 degC, 80-pin QFP (PFP80), Green (RoHS & no Sb/Br); Manufacturer: Texas Instruments; PartNumber: ADS5444MPFPEP; # Input Channels: 1; Analog Voltage AV/DD(Max)(V): 5.25; Analog Voltage AV/DD(Min)(V): 4.75; Architecture: Pipeline; Digital Supply(Max)(V): 3.6; Digital Supply(Min)(V): 3; ENOB(Bits): 11.2; INL(Max)(+/-LSB): 4.3; Interface: Parallel LVDS; Resolution(Bits): 13; Sample Rate (max)(SPS): 250M; SFDR(dB): 77; SINAD(dB): 68; SNR(dB): 69; SubFamily: High Speed ADC (>10MSPS); DatasheetVersion: SGLS360; PackageVersion: 4146925/C, 07/2011; PackageReference: PFP80-6825X6825TP; PackageDescription: 80-Pin PowerPAD(TM) Plastic Quad Flatpack, Body 12 x 12 mm, Pitch 0.5 mm; Supplier 1: Digi-Key; Supplier Part Number 1: ADS8405IBPFBR-ND; Supplier 2: Mouser; Supplier Part Number 2: 595-ADS8405IBPFBR; Eco-Plan: Green (RoHS & no Sb/Br); Mounting Technology: Surface Mount; Code_JEDEC: MS-026; ComponentLink1Description: Manufacturer URL; ComponentLink1URL: http://www.ti.com/; ComponentLink2Description: Datasheet; ComponentLink2URL: http://www.ti.com/general/docs/lit/getliterature.tsp?genericPartNumber=ADS5444-EP&fileType=pdf; ComponentLink3Description: Package Specification; ComponentLink3URL: http://www.ti.com/litv/pdf/mpqf049b
footprint TI-PFP80-6825X6825TP_N (QFP, 80-Leads, Body 12x12mm, Pitch 0.5mm, Thermal Pad 7.5x7.5mm, IPC Medium Density)
footprint TI-PFP80-6825X6825TP_L (QFP, 80-Leads, Body 12x12mm, Pitch 0.5mm, Thermal Pad 7.5x7.5mm, IPC High Density)
footprint TI-PFP80-6825X6825TP_M (QFP, 80-Leads, Body 12x12mm, Pitch 0.5mm, Thermal Pad 7.5x7.5mm, IPC Low Density)
part A pins: 4 NC "No connect", 5 NC "No connect", 6 VREF "Reference voltage", 10 CLK (in) "Differential input clock (positive). Conversion initiated on rising edge", 11 ~{CLK} (in) "Differential input clock (negative)", 16 AIN (in) "Differential input signal (positive)", 17 ~{AIN} (in) "Differential input signal (negative)", 29 NC "No connect", 33 NC "No connect", 41 ~{OVR} (out) "Over range indicator LVDS output. A logic high signals an analog input in excess of the full-scale range", 42 OVR (out) "Over range indicator LVDS output. A logic high signals an analog input in excess of the full-scale range", 43 NC "No connect", 44 NC "No connect", 45 NC "No connect", 46 NC "No connect", 47 NC "No connect", 48 NC "No connect", 49 ~{D0} (out) "LVDS digital output pair, least-significant bit (LSB)", 50 D0 (out) "LVDS digital output pair, least-significant bit (LSB)", 53 ~{D1} (out) "LVDS digital output pairs", 54 D1 (out) "LVDS digital output pairs", 55 ~{D2} (out) "LVDS digital output pairs", 56 D2 (out) "LVDS digital output pairs", 57 ~{D3} (out) "LVDS digital output pairs", 58 D3 (out) "LVDS digital output pairs", 59 ~{D4} (out) "LVDS digital output pairs", 60 D4 (out) "LVDS digital output pairs", 61 ~{D5} (out) "LVDS digital output pairs", 62 D5 (out) "LVDS digital output pairs", 63 ~{D6} (out) "LVDS digital output pairs", 64 D6 (out) "LVDS digital output pairs", 67 ~{D7} (out) "LVDS digital output pairs", 68 D7 (out) "LVDS digital output pairs", 69 ~{D8} (out) "LVDS digital output pairs", 70 D8 (out) "LVDS digital output pairs", 71 ~{D9} (out) "LVDS digital output pairs", 72 D9 (out) "LVDS digital output pairs", 73 ~{D10} (out) "LVDS digital output pairs", 74 D10 (out) "LVDS digital output pairs", 75 ~{D11} (out) "LVDS digital output pairs", 76 D11 (out) "LVDS digital output pairs", 77 ~{D12} (out) "LVDS digital output pair, most-significant bit (MSB)", 78 D12 (out) "LVDS digital output pair, most-significant bit (MSB)", 79 ~{DRY} (out) "Data ready LVDS output pair", 80 DRY (out) "Data ready LVDS output pair"
part B pins: 1 DVDD (power) "Output driver power supply", 2 GND (power) "Ground", 3 AVDD (power) "Analog power supply", 7 GND (power) "Ground", 8 AVDD (power) "Analog power supply", 9 GND (power) "Ground", 12 GND (power) "Ground", 13 AVDD (power) "Analog power supply", 14 AVDD (power) "Analog power supply", 15 GND (power) "Ground", 18 GND (power) "Ground", 19 AVDD (power) "Analog power supply", 20 GND (power) "Ground", 21 AVDD (power) "Analog power supply", 22 GND (power) "Ground", 23 AVDD (power) "Analog power supply", 24 GND (power) "Ground", 25 AVDD (power) "Analog power supply", 26 GND (power) "Ground", 27 AVDD (power) "Analog power supply", 28 GND (power) "Ground", 30 GND (power) "Ground", 31 AVDD (power) "Analog power supply", 32 GND (power) "Ground", 34 GND (power) "Ground", 35 AVDD (power) "Analog power supply", 36 GND (power) "Ground", 37 AVDD (power) "Analog power supply", 38 GND (power) "Ground", 39 AVDD (power) "Analog power supply", 40 GND (power) "Ground", 51 DVDD (power) "Output driver power supply", 52 GND (power) "Ground", 65 GND (power) "Ground", 66 DVDD (power) "Output driver power supply", 81 EP (power)

## ADS5500IPAP
designator U?
14-Bit, 125 MSPS ADC Single Channel Low Power and Superior AC Performance, -40 to 85 degC, 64-pin QFP (PAP64), Green (RoHS & no Sb/Br); Manufacturer: Texas Instruments; PartNumber: ADS5500IPAP; # Input Channels: 1; Analog Voltage AV/DD(Max)(V): 3.6; Analog Voltage AV/DD(Min)(V): 3; Architecture: Pipeline; ENOB(Bits): 11.3; INL(Max)(+/-LSB): 5; Interface: Parallel CMOS,Serial SPI Interface; Resolution(Bits): 14; Sample Rate (max)(SPS): 125M; SFDR(dB): 84; SINAD(dB): 72.8; SNR(dB): 73.2; SubFamily: High Speed ADC (>10MSPS); DatasheetVersion: SBAS303F; PackageVersion: 4147702/C, 08/2003; PackageReference: PAP64-3825X3825TP; PackageDescription: 64-Pin PowerPAD(TM) Plastic Quad Flatpack, Body 10 x 10 mm, Pitch 0.5 mm; Supplier 1: Digi-Key; Supplier Part Number 1: ADS8405IBPFBRG4-ND; Supplier 2: Mouser; Supplier Part Number 2: 595-ADS8405IBPFBRG4; Digital Supply(Max)(V): 3.6; Digital Supply(Min)(V): 3; Eco-Plan: Green (RoHS & no Sb/Br); Mounting Technology: Surface Mount; Code_JEDEC: MS-026; ComponentLink1Description: Manufacturer URL; ComponentLink1URL: http://www.ti.com/; ComponentLink2Description: Datasheet; ComponentLink2URL: http://www.ti.com/general/docs/lit/getliterature.tsp?genericPartNumber=ADS5500&fileType=pdf; ComponentLink3Description: Package Specification; ComponentLink3URL: http://www.ti.com/lit/ml/mpqf071b/mpqf071b.pdf
footprint TI-PAP64-3825X3825TP_N (QFP, 64-Leads, Body 10x10mm, Pitch 0.5mm, Thermal Pad 4.15x4.15 mm, IPC Medium Density)
footprint TI-PAP64-3825X3825TP_L (QFP, 64-Leads, Body 10x10mm, Pitch 0.5mm, Thermal Pad 4.15x4.15mm, IPC High Density)
footprint TI-PAP64-3825X3825TP_M (QFP, 64-Leads, Body 10x10mm, Pitch 0.5mm, Thermal Pad 4.15x4.15mm, IPC Low Density)
part A pins: 19 INP (in) "Differential analog input (positive)", 20 INM (in) "Differential analog input (negative)", 44 D0 (LSB) (hiz) "Parallel data output", 45 D1 (hiz) "Parallel data output", 46 D2 (hiz) "Parallel data output", 47 D3 (hiz) "Parallel data output", 51 D4 (hiz) "Parallel data output", 52 D5 (hiz) "Parallel data output", 53 D6 (hiz) "Parallel data output", 54 D7 (hiz) "Parallel data output", 55 D8 (hiz) "Parallel data output", 56 D9 (hiz) "Parallel data output", 60 D10 (hiz) "Parallel data output", 61 D11 (hiz) "Parallel data output", 62 D12 (hiz) "Parallel data output", 63 D13 (MSB) (hiz) "Parallel data output", 64 OVR (out) "Over-range indicator bit"
part B pins: 2 SCLK (in) "Serial interface clock", 3 SDATA (in) "Serial interface data", 4 SEN (in) "Serial interface chip select", 10 CLKP (in) "Data converter differential input clock (positive)", 11 CLKM (in) "Data converter differential input clock (negative)", 17 CM (out) "Common-mode output voltage", 29 REFP "Reference voltage (positive); 1-uF capacitor in series with a 1-ohm resistor to GND", 30 REFM "Reference voltage (negative); 1-uF capacitor in series with a 1-ohm resistor to GND", 31 IREF (in) "Current set; 56-kohm resistor to GND; do not connect capacitors", 35 RESET (in) "Reset (active high), 200-kohm resistor to AVDD", 40 DFS (in) "Data format and clock out polarity select", 41 OE (in) "Output enable (active high)", 43 CLKOUT (out) "CMOS clock out in sync with data"
part C pins: 1 DRGND (power) "Output driver ground", 5 AVDD (power) "Analog power supply", 6 AGND (power) "Analog ground", 7 AVDD (power) "Analog power supply", 8 AGND (power) "Analog ground", 9 AVDD (power) "Analog power supply", 12 AGND (power) "Analog ground", 13 AGND (power) "Analog ground", 14 AGND (power) "Analog ground", 15 AVDD (power) "Analog power supply", 16 AGND (power) "Analog ground", 18 AGND (power) "Analog ground", 21 AGND (power) "Analog ground", 22 AVDD (power) "Analog power supply", 23 AGND (power) "Analog ground", 24 AVDD (power) "Analog power supply", 25 AGND (power) "Analog ground", 26 AVDD (power) "Analog power supply", 27 AGND (power) "Analog ground", 28 AVDD (power) "Analog power supply", 32 AGND (power) "Analog ground", 33 AVDD (power) "Analog power supply", 34 AVDD (power) "Analog power supply", 36 AGND (power) "Analog ground", 37 AVDD (power) "Analog power supply", 38 AGND (power) "Analog ground", 39 AVDD (power) "Analog power supply", 42 DRGND (power) "Output driver ground", 48 DRGND (power) "Output driver ground", 49 DRVDD (power) "Output driver power supply", 50 DRGND (power) "Output driver ground", 57 DRGND (power) "Output driver ground", 58 DRVDD (power) "Output driver power supply", 59 DRGND (power) "Output driver ground", 65 EP (power) "Connected to Analog Ground"

## ADS5500IPAPG4
designator U?
14-Bit, 125 MSPS ADC Single Channel Low Power and Superior AC Performance, -40 to 85 degC, 64-pin QFP (PAP64), Green (RoHS & no Sb/Br); Manufacturer: Texas Instruments; PartNumber: ADS5500IPAPG4; # Input Channels: 1; Analog Voltage AV/DD(Max)(V): 3.6; Analog Voltage AV/DD(Min)(V): 3; Architecture: Pipeline; ENOB(Bits): 11.3; INL(Max)(+/-LSB): 5; Interface: Parallel CMOS,Serial SPI Interface; Resolution(Bits): 14; Sample Rate (max)(SPS): 125M; SFDR(dB): 84; SINAD(dB): 72.8; SNR(dB): 73.2; SubFamily: High Speed ADC (>10MSPS); DatasheetVersion: SBAS303F; PackageVersion: 4147702/C, 08/2003; PackageReference: PAP64-3825X3825TP; PackageDescription: 64-Pin PowerPAD(TM) Plastic Quad Flatpack, Body 10 x 10 mm, Pitch 0.5 mm; Supplier 1: Digi-Key; Supplier Part Number 1: 296-17636-2-ND; Supplier 2: Digi-Key; Supplier Part Number 2: 296-17636-1-ND; Supplier 3: Digi-Key; Supplier Part Number 3: 296-17636-6-ND; Supplier 4: Farnell; Supplier Part Number 4: 1754734; Supplier 5: Newark; Supplier Part Number 5: 93R5064; Supplier 6: Newark; Supplier Part Number 6: 73J8209; Supplier 7: Mouser; Supplier Part Number 7: 595-ADS8405IBPFBT; Digital Supply(Max)(V): 3.6; Digital Supply(Min)(V): 3; Eco-Plan: Green (RoHS & no Sb/Br); Mounting Technology: Surface Mount; Code_JEDEC: MS-026; ComponentLink1Description: Manufacturer URL; ComponentLink1URL: http://www.ti.com/; ComponentLink2Description: Datasheet; ComponentLink2URL: http://www.ti.com/general/docs/lit/getliterature.tsp?genericPartNumber=ADS5500&fileType=pdf; ComponentLink3Description: Package Specification; ComponentLink3URL: http://www.ti.com/lit/ml/mpqf071b/mpqf071b.pdf
footprint TI-PAP64-3825X3825TP_N (QFP, 64-Leads, Body 10x10mm, Pitch 0.5mm, Thermal Pad 4.15x4.15 mm, IPC Medium Density)
footprint TI-PAP64-3825X3825TP_L (QFP, 64-Leads, Body 10x10mm, Pitch 0.5mm, Thermal Pad 4.15x4.15mm, IPC High Density)
footprint TI-PAP64-3825X3825TP_M (QFP, 64-Leads, Body 10x10mm, Pitch 0.5mm, Thermal Pad 4.15x4.15mm, IPC Low Density)
part A pins: 19 INP (in) "Differential analog input (positive)", 20 INM (in) "Differential analog input (negative)", 44 D0 (LSB) (hiz) "Parallel data output", 45 D1 (hiz) "Parallel data output", 46 D2 (hiz) "Parallel data output", 47 D3 (hiz) "Parallel data output", 51 D4 (hiz) "Parallel data output", 52 D5 (hiz) "Parallel data output", 53 D6 (hiz) "Parallel data output", 54 D7 (hiz) "Parallel data output", 55 D8 (hiz) "Parallel data output", 56 D9 (hiz) "Parallel data output", 60 D10 (hiz) "Parallel data output", 61 D11 (hiz) "Parallel data output", 62 D12 (hiz) "Parallel data output", 63 D13 (MSB) (hiz) "Parallel data output", 64 OVR (out) "Over-range indicator bit"
part B pins: 2 SCLK (in) "Serial interface clock", 3 SDATA (in) "Serial interface data", 4 SEN (in) "Serial interface chip select", 10 CLKP (in) "Data converter differential input clock (positive)", 11 CLKM (in) "Data converter differential input clock (negative)", 17 CM (out) "Common-mode output voltage", 29 REFP "Reference voltage (positive); 1-uF capacitor in series with a 1-ohm resistor to GND", 30 REFM "Reference voltage (negative); 1-uF capacitor in series with a 1-ohm resistor to GND", 31 IREF (in) "Current set; 56-kohm resistor to GND; do not connect capacitors", 35 RESET (in) "Reset (active high), 200-kohm resistor to AVDD", 40 DFS (in) "Data format and clock out polarity select", 41 OE (in) "Output enable (active high)", 43 CLKOUT (out) "CMOS clock out in sync with data"
part C pins: 1 DRGND (power) "Output driver ground", 5 AVDD (power) "Analog power supply", 6 AGND (power) "Analog ground", 7 AVDD (power) "Analog power supply", 8 AGND (power) "Analog ground", 9 AVDD (power) "Analog power supply", 12 AGND (power) "Analog ground", 13 AGND (power) "Analog ground", 14 AGND (power) "Analog ground", 15 AVDD (power) "Analog power supply", 16 AGND (power) "Analog ground", 18 AGND (power) "Analog ground", 21 AGND (power) "Analog ground", 22 AVDD (power) "Analog power supply", 23 AGND (power) "Analog ground", 24 AVDD (power) "Analog power supply", 25 AGND (power) "Analog ground", 26 AVDD (power) "Analog power supply", 27 AGND (power) "Analog ground", 28 AVDD (power) "Analog power supply", 32 AGND (power) "Analog ground", 33 AVDD (power) "Analog power supply", 34 AVDD (power) "Analog power supply", 36 AGND (power) "Analog ground", 37 AVDD (power) "Analog power supply", 38 AGND (power) "Analog ground", 39 AVDD (power) "Analog power supply", 42 DRGND (power) "Output driver ground", 48 DRGND (power) "Output driver ground", 49 DRVDD (power) "Output driver power supply", 50 DRGND (power) "Output driver ground", 57 DRGND (power) "Output driver ground", 58 DRVDD (power) "Output driver power supply", 59 DRGND (power) "Output driver ground", 65 EP (power) "Connected to Analog Ground"